# EAGLE library part 750817930 (library WE-OLTI)
WE-OLTI Offline Flyback Transformers Characteristics Nominal input voltage: 85–265 VAC (120–375 VDC) Small size Low leakage inductance Multiple-output options Operating temperature: −40 °C to +125 °C Isolation Voltage: 2 kVAC to 5 kVAC Options for fixed frequency or quasi-resonant mode operation Most products meet reinforced insulation Applications Industrial controls USB chargers Utility metering devices Process controls Factory automation Security systems Garage door opener auxiliary supplies Home appliances Especially designed for several ICs from Texas Instruments <https://www.we-online.com/components/media/o814034v209%20UtOLTI%20Group%20CGI.jpg> Details see: www.we-online.com/en/components/products/WE-OLTI <www.we-online.com/catalog/WE-OLTI/?utm_source=eagle_model&utm_medium=description_link&utm_campaign=eisos_eagle> Created by Ella Wu 2025-02-06 2025 (C) Wurth Elektronik
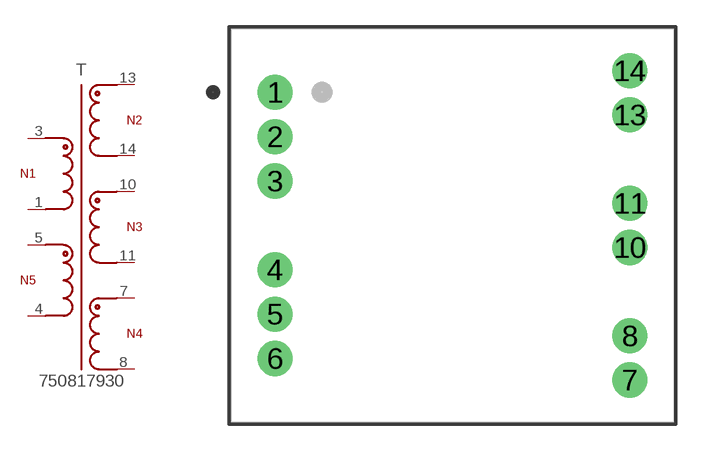
[diagram p10: symbol with the pads of WE-OLTI_EE20/10/6_L22.2W25H16.5_12PINS; footprint WE-OLTI_EE20/10/6_L22.2W25H16.5_12PINS]

Designator prefix T

## 750817930 (DATASHEET-URL: https://www.we-online.com/redexpert/spec/750817930?ae; FSWITCH: 100kHz; HEIGHT: 16mm; IOUT1: 700mA; IOUT2: 700mA; IOUT3: 700mA; ISAT: 1.8A; L: 350uH; LENGTH: 22.2mm; MOUNT: THT; N: 7:1:1:1:1.5; PART-NUMBER: 750817930; SIZE: EE20/10/6; VALUE: 350uH; VAUX: 18V; VIN: 71 - 481 V (AC); VOUT1: 12V; VOUT2: 12V; VOUT3: 12V; VT: 3000V(AC); WIDTH: 25mm)  [WE-OLTI_EE20/10/6_L22.2W25H16.5_12PINS]
1  1  pas
3  3  pas
4  4  pas
5  5  pas
7  7  pas
8  8  pas
10  10  pas
11  11  pas
13  13  pas
14  14  pas

## Footprint WE-OLTI_EE20/10/6_L22.2W25H16.5_12PINS (pad centres in mm)
WE-OLTI Offline Flyback Transformers Size:EE20/10/6,THT,12pins LXWXH=22.2X25X16mm Bobbin: 070-5643
drill 1.32: 1 -10,7.5; 2 -10,5; 3 -10,2.5; 4 -10,-2.5; 5 -10,-5; 6 -10,-7.5; 7 10,-8.715; 8 10,-6.225; 10 10,-1.245; 11 10,1.245; 13 10,6.225; 14 10,8.715